# Altium integrated library LIB1.IntLib: 20 symbols
Pins are listed as number, name and electrical type; pins without a type are passive.

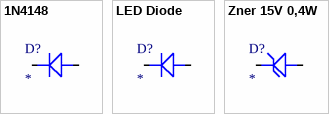
[diagram p0: symbols 1N4148 to Zner 15V 0,4W]

## 1N4148
designator D?
footprint 1N4148
pins: A, K

## LED Diode
designator D?
footprint Led Diode 5mm tht - duplicate
pins: A, K

## Zner 15V 0,4W
designator D?
footprint ZENER 15V 0.4W
pins: A, K


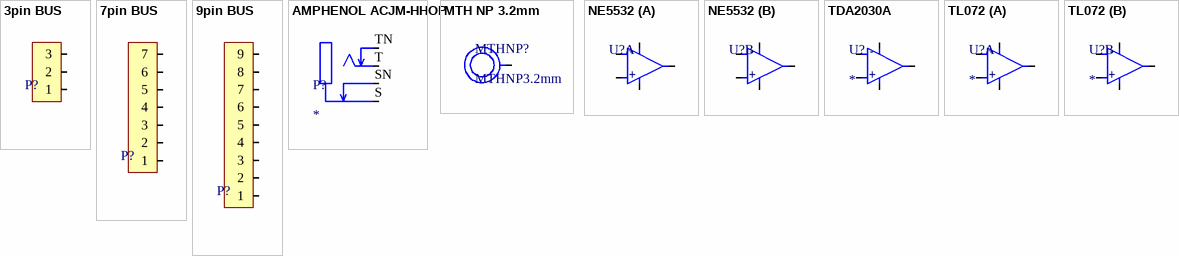
[diagram p1: symbols 3pin BUS to TL072]

## 3pin BUS
designator P?
raster 5mm
footprint 3 Pin BUS (5mm)
pins: 1, 2, 3

## 7pin BUS
designator P?
raster 5mm
footprint 7 PIN BUS
pins: 1, 2, 3, 4, 5, 6, 7

## 9pin BUS
designator P?
raster 5mm
footprint 9 pin BUS (5mm)
pins: 1, 2, 3, 4, 5, 6, 7, 8, 9

## AMPHENOL ACJM-HHOP
designator P?
footprint AMPHENOL ACJM-HHOP
pins: S, SN, T, TN

## MTH NP 3.2mm
designator MTHNP?, comment MTHNP3.2mm
Mounting hole non plated 3.2mm
footprint MTH NP 3.2mm (Mounting hole non plated 3.2mm)
pins: 1

## NE5532
designator U?
footprint DIP8
part A pins: 1 1OUT, 2 1IN-, 3 1IN+, 4 VEE, 8 VCC
part B pins: 4 VEE, 5 2IN+, 6 2IN-, 7 2OUT, 8 VCC
part A text: -; +
part B text: -; +

## TDA2030A
designator U?
footprint TDA2030A (TO220-5 package)
pins: 1 IN+, 2 IN-, 3 VEE, 4 OUT, 5 VCC
text: -; +

## TL072
designator U?
footprint DIP8
part A pins: 1 1OUT, 2 1IN-, 3 1IN+, 4 VEE, 8 VCC
part B pins: 4 VEE, 5 2IN+, 6 2IN-, 7 2OUT, 8 VCC
part A text: -; +
part B text: -; +


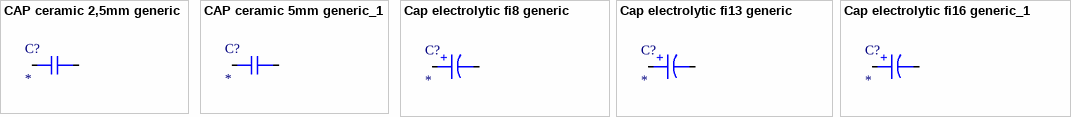
[diagram p2: symbols CAP ceramic 2,5mm generic to Cap electrolytic fi16 generic_1]

## CAP ceramic 2,5mm generic
designator C?
Capacitance: *; Voltage rating: *
footprint Capacitor THT 2,54mm - duplicate
pins: 1, 2

## CAP ceramic 5mm generic_1
designator C?
Capacitance: *; Voltage rating: *
footprint Capacitor THT 5mm
pins: 1, 2

## Cap electrolytic fi8 generic
designator C?
Capacitance: *; Voltage rating: *
footprint Capacitor electrolytic tht fi8
pins: 1, 2
text: +

## Cap electrolytic fi13 generic
designator C?
Capacitance: *; Voltage rating: *
footprint Capacitor Electrolytic THT fi13
pins: 1, 2
text: +

## Cap electrolytic fi16 generic_1
designator C?
Capacitance: *; Voltage rating: *
footprint Capacitor electrolytic tht fi16x40
pins: 1, 2
text: +


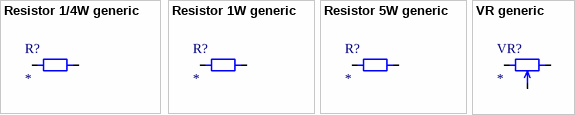
[diagram p3: symbols Resistor 1/4W generic to VR generic]

## Resistor 1/4W generic
designator R?
Resistance: *
footprint Resistor THT 0,25W
pins: 1, 2

## Resistor 1W generic
designator R?
Power Rating: 1W; Resistance: ohm
footprint Resistor THT 1W
pins: 1, 2

## Resistor 5W generic
designator R?
Power Rating: 5W; Resistanceter 1: *
footprint Resistor THT 5W
pins: 1, 2

## VR generic
designator VR?
Resistance: *
footprint Variable Resistor (VR)
pins: 1, 2, 3